# Altium footprint library ON Semi Schottky Diode.PcbLib: 1 footprints
Each footprint in its own frame and in the unit in brackets; x right, y up, seen from the top. Pads: shape width x height; smd on the part's side, far side on the other; paste and mask are expansions set on the pad; w line width, h text height; cw(c..) or ccw(c..) is an arc to the next point about the centre after c.
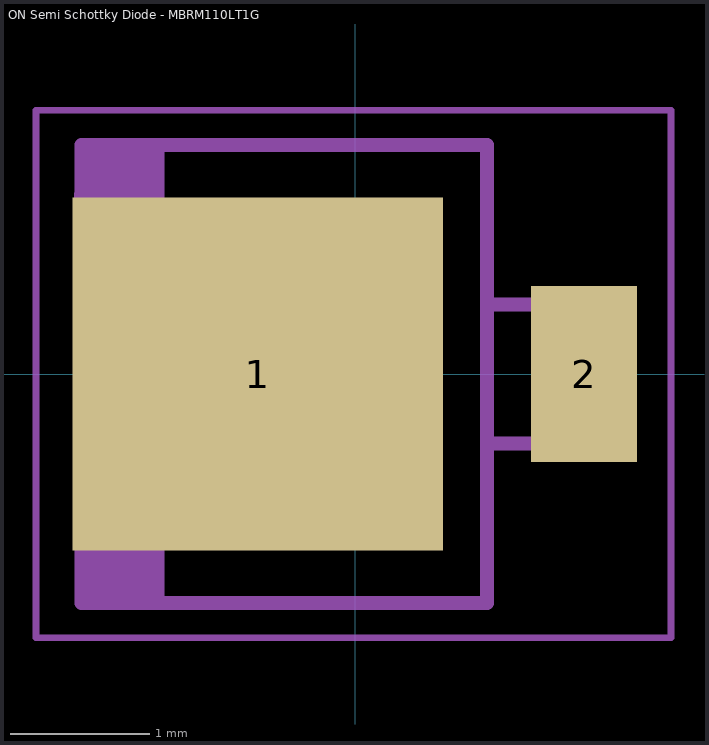
[diagram p0: the footprint, top view; thin cyan lines are the x and y axes]

## ON Semi Schottky Diode - MBRM110LT1G [mm]
pads (2):
  rect 2.67x2.54 smd: 1(-0.7,0)
  rect 0.762x1.27 smd: 2(1.649,0)
Mechanical 6:
  text "'.Designator'" at -1.05,-0.325 h0.6
Mechanical 8:
  circle w0.3: c-1.75,1.275 r0.125
  lines w0.05: -2.3,-1.9 -2.3,1.9 2.275,1.9 2.275,-1.9 -2.3,-1.9
Mechanical 13:
  region: -1.97,1.651 -1.375,1.651 -1.374,-1.651 -1.97,-1.651
  lines w0.1: 0.95,0.5 1.675,0.5 1.675,-0.5 0.951,-0.5 ; -1.97,-1.651 0.951,-1.651 0.951,1.651 -1.97,1.651 -1.97,-1.651
Mechanical 15:
  lines w0.05: -2.3,-1.9 2.275,-1.9 2.275,1.9 -2.3,1.9 -2.3,-1.9
  lines w0.1: -0.5,0 0.5,0 ; 0,-0.5 0,0.5
3D body: height 1.02, standoff 0, extent -1.97,-1.651 0.951,1.651